# Altium schematic symbol library CONN(USB2.0, MICRO-B, SMD, RA).SchLib: 1 symbol
Pins are listed as number, name and electrical type; pins without a type are passive.

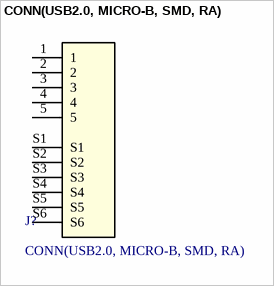
[diagram p0: symbol CONN(USB2.0, MICRO-B, SMD, RA)]

## CONN(USB2.0, MICRO-B, SMD, RA)
designator J?
Manufacturer: Amphenol ICC; Manufacturer_PN: 10118192-0002LF; Datasheet: https://cdn.amphenol-cs.com/media/wysiwyg/files/documentation/datasheet/inputoutput/io_usb_micro.pdf; Digikey_Link: https://www.digikey.it/en/products/detail/amphenol-cs-fci/10118192-0002LF/6817756?s=N4IgTCBcDaIIwAY5wBxwJxgLQN2AMgGIgC6AvkA
footprint CONN_10118192-0002LF_AMP
pins: 1, 2, 3, 4, 5, S1, S2, S3, S4, S5, S6